# EAGLE library part ESP8266 (library ESP8266)
low cost Wifi to Serial Module
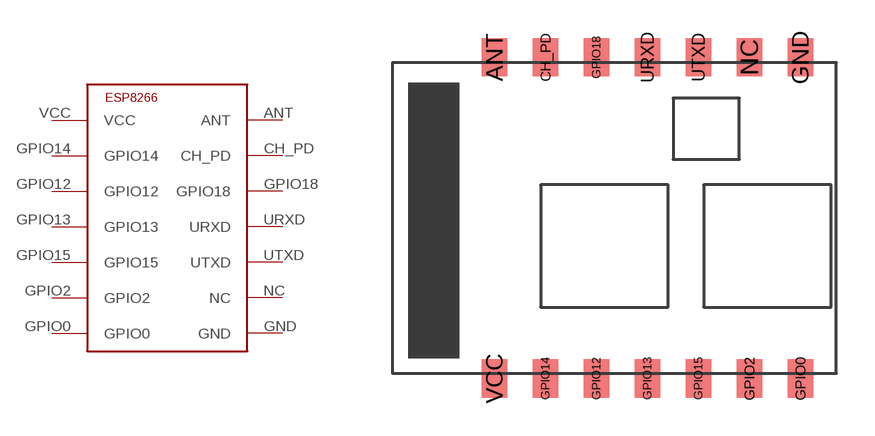
[diagram p0: symbol with the pads of ESP-03; footprint ESP-03]

Designator prefix -

## ESP8266  [ESP-03]
ANT  ANT
CH_PD  CH_PD
GND  GND
GPIO0  GPIO0
GPIO2  GPIO2
GPIO12  GPIO12
GPIO13  GPIO13
GPIO14  GPIO14
GPIO15  GPIO15
GPIO18  GPIO18
NC  NC
URXD  URXD
UTXD  UTXD
VCC  VCC

## Footprint ESP-03 (pad centres in mm)
smd 1 x 1.5: ANT 4,6.3; CH_PD 6,6.3; GND 16,6.3; GPIO0 16,-6.3; GPIO2 14,-6.3; GPIO12 8,-6.3; GPIO13 10,-6.3; GPIO14 6,-6.3; GPIO15 12,-6.3; GPIO18 8,6.3; NC 14,6.3; URXD 10,6.3; UTXD 12,6.3; VCC 4,-6.3